# EAGLE library part NSC-M (library VentCU)
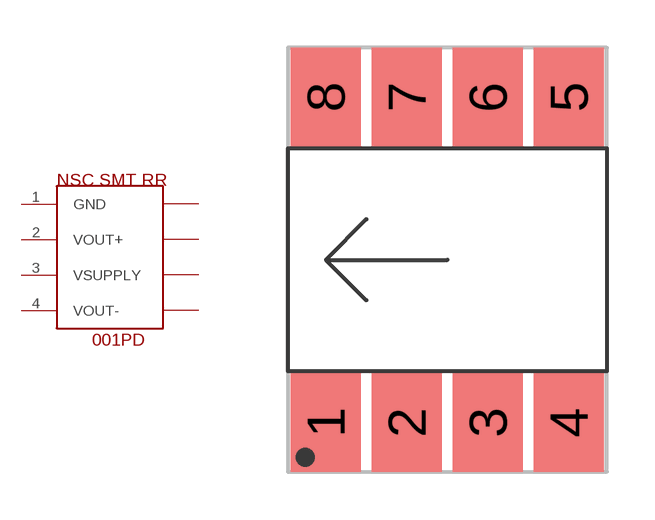
[diagram p0: symbol with the pads of NSC-M; footprint NSC-M]

Designator prefix -

## NSC-M  [NSC-M]
1  GND  sup
2  VOUT+  out
3  VSUPPLY  pwr
4  VOUT-  out
5  NC5  nc
6  NC6  nc
7  NC7  nc
8  NC8  nc

## Footprint NSC-M (pad centres in mm)
smd 2.2 x 3.1: 1 -3.81,-5.1; 2 -1.27,-5.1; 3 1.27,-5.1; 4 3.81,-5.1; 5 3.81,5.1; 6 1.27,5.1; 7 -1.27,5.1; 8 -3.81,5.1